# Altium schematic symbol library LTC3407.Schlib: 1 symbol
Pins are listed as number, name and electrical type; pins without a type are passive.

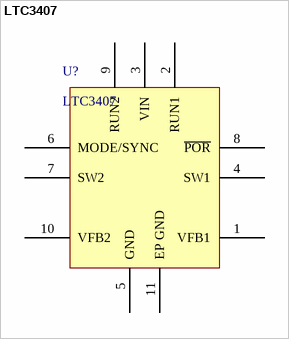
[diagram p0: symbol LTC3407]

## LTC3407
designator U?
IC REG DC/DC DUAL STEPDOWN 10DFN
pins: 1 VFB1 (power), 2 RUN1 (power), 3 VIN (power), 4 SW1 (power), 5 GND (power), 6 MODE/SYNC (power), 7 SW2 (power), 8 ~{POR} (power), 9 RUN2 (power), 10 VFB2 (power), 11 EP GND (power)